# Altium integrated library Resistors.IntLib: 255 symbols (part 1 of 3)
Pins are listed as number, name and electrical type; pins without a type are passive.

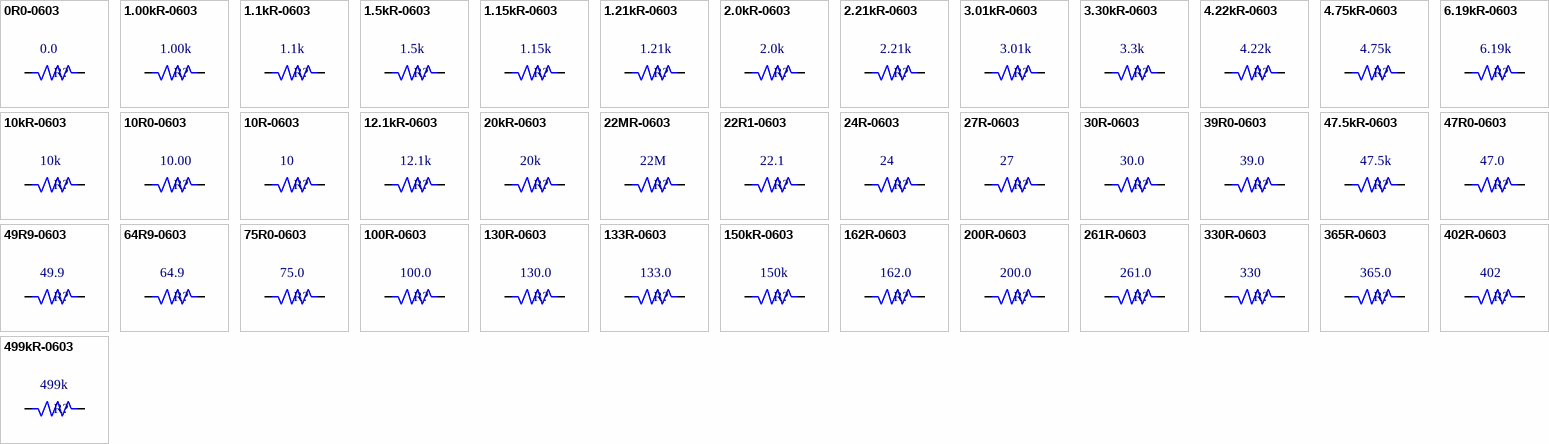
[diagram p0: symbols 0R0-0603 to 499kR-0603]

## 0R0-0603
designator R?, comment value 0.0  (hidden comment: RC0603JR-070RL)
0R0, 0603 SMT resistor 1/10W; PackageDescription: Chip Resistor 0603; Supplier 1: Digi-Key; Supplier 2: Newark; Supplier 3: Mouser; Supplier Part Number 1: 311-0.0GRCT-ND; Supplier Part Number 2: 26R4042; Supplier Part Number 3: 667-ERJ-3GEY0R00V; Package Reference: 0603
simulation model RESISTOR (Resistor)
signal-integrity model Res
footprint R0603 (Chip Resistor, Body 0.6x0.3mm, IPC High Density)
3D model 0603-Res (PCB3D Model)
pins: 1, 2

## 1.00kR-0603
designator R?, comment value 1.00k  (hidden comment: 1.00k, 0603)
1.00k, 0603 SMT resistor, 1/10W, 1%; PackageDescription: Chip Resistor 0603; Supplier 1: Mouser; Supplier 2: Newark; Supplier 3: Digi-Key; Supplier 4: Digi-Key; Supplier Part Number 1: 667-ERJ-3EKF1001V; Supplier Part Number 2: 64R5308; Supplier Part Number 3: P1.00KHCT-ND; Supplier Part Number 4: RHM1.00KCFCT-ND; Package Reference: 0603
simulation model RESISTOR (Resistor)
signal-integrity model Res
footprint R0603 (Chip Resistor, Body 0.6x0.3mm, IPC High Density)
3D model 0603-Res (PCB3D Model)
pins: 1, 2

## 1.1kR-0603
designator R?, comment value 1.1k  (hidden comment: 1.1k, 0603)
1.1k, 0603 SMT resistor, 1/10W, 1%; PackageDescription: Chip Resistor 0603; Supplier 1: Newark; Supplier 2: Digi-Key; Supplier 3: Mouser; Supplier Part Number 1: 65T8314; Supplier Part Number 2: P1.10KHCT-ND; Supplier Part Number 3: 667-ERJ-3EKF1101V; Package Reference: 0603
simulation model RESISTOR (Resistor)
signal-integrity model Res
footprint R0603 (Chip Resistor, Body 0.6x0.3mm, IPC High Density)
3D model 0603-Res (PCB3D Model)
pins: 1, 2

## 1.5kR-0603
designator R?, comment value 1.5k  (hidden comment: 1.5k, 0603)
1.5k, 0603 SMT resistor, 1/10W, 1%; PackageDescription: Chip Resistor 0603; Supplier 1: Mouser; Supplier 2: Digi-Key; Supplier 3: Newark; Supplier Part Number 1: 667-ERJ-3EKF1501V; Supplier Part Number 2: P1.50KHCT-ND; Supplier Part Number 3: 64R5319; Package Reference: 0603
simulation model RESISTOR (Resistor)
signal-integrity model Res
footprint R0603 (Chip Resistor, Body 0.6x0.3mm, IPC High Density)
3D model 0603-Res (PCB3D Model)
pins: 1, 2

## 1.15kR-0603
designator R?, comment value 1.15k  (hidden comment: 1.15k, 0603)
1.15k 0603 SMT resistor, 1/10W, 1%; PackageDescription: Chip Resistor 0603; Supplier 1: Mouser; Supplier 2: Digi-Key; Supplier 3: Newark; Supplier Part Number 1: 667-ERJ-3EKF1151V; Supplier Part Number 2: P1.15KHCT-ND; Supplier Part Number 3: 53W4514; Package Reference: 0603
simulation model RESISTOR (Resistor)
signal-integrity model Res
footprint R0603 (Chip Resistor, Body 0.6x0.3mm, IPC High Density)
3D model 0603-Res (PCB3D Model)
pins: 1, 2

## 1.21kR-0603
designator R?, comment value 1.21k  (hidden comment: 1.21k, 0603)
1.21k, 0603 SMT resistor, 1/10W, 1%; PackageDescription: Chip Resistor 0603; Supplier 1: Digi-Key; Supplier 2: Newark; Supplier 3: Mouser; Supplier Part Number 1: P1.21KHCT-ND; Supplier Part Number 2: 65T8322; Supplier Part Number 3: 667-ERJ-3EKF1211V; Package Reference: 0603
simulation model RESISTOR (Resistor)
signal-integrity model Res
footprint R0603 (Chip Resistor, Body 0.6x0.3mm, IPC High Density)
3D model 0603-Res (PCB3D Model)
pins: 1, 2

## 2.0kR-0603
designator R?, comment value 2.0k  (hidden comment: 2.0k, 0603)
2.0k, 0603 SMT resistor, 1/10W, 1%; PackageDescription: Chip Resistor 0603; Supplier 1: Mouser; Supplier 2: Digi-Key; Supplier 3: Newark; Supplier Part Number 1: 667-ERJ-3EKF2001V; Supplier Part Number 2: P2.00KHCT-ND; Supplier Part Number 3: 65T8366; Package Reference: 0603
simulation model RESISTOR (Resistor)
signal-integrity model Res
footprint R0603 (Chip Resistor, Body 0.6x0.3mm, IPC High Density)
3D model 0603-Res (PCB3D Model)
pins: 1, 2

## 2.21kR-0603
designator R?, comment value 2.21k  (hidden comment: 2.21k, 0603)
2.21k, 0603 SMT resistor, 1/10W, 1%; PackageDescription: Chip Resistor 0603; Supplier 1: Mouser; Supplier 2: Newark; Supplier 3: Digi-Key; Supplier Part Number 1: 667-ERJ-3EKF2211V; Supplier Part Number 2: 65T8380; Supplier Part Number 3: P2.21KHCT-ND; Package Reference: 0603
simulation model RESISTOR (Resistor)
signal-integrity model Res
footprint R0603 (Chip Resistor, Body 0.6x0.3mm, IPC High Density)
3D model 0603-Res (PCB3D Model)
pins: 1, 2

## 3.01kR-0603
designator R?, comment value 3.01k  (hidden comment: 3.01k, 0603)
3.01k, 0603 SMT resistor, 1/10W, 1%; PackageDescription: Chip Resistor 0603; Supplier 1: Digi-Key; Supplier 2: Newark; Supplier 3: Mouser; Supplier Part Number 1: P3.01KHCT-ND; Supplier Part Number 2: 65T8418; Supplier Part Number 3: 667-ERJ-3EKF3011V; Package Reference: 0603
simulation model RESISTOR (Resistor)
signal-integrity model Res
footprint R0603 (Chip Resistor, Body 0.6x0.3mm, IPC High Density)
3D model 0603-Res (PCB3D Model)
pins: 1, 2

## 3.30kR-0603
designator R?, comment value 3.3k  (hidden comment: 3.3k, 0603 1%)
3.3k, 0603 SMT resistor, 1/10W, 1%; PackageDescription: Chip Resistor 0603; Supplier 1: Digi-Key; Supplier Part Number 1: 311-3.30KHRCT-ND; Supplier 2: Digi-Key; Supplier Part Number 2: RMCF0603FT3K30CT-ND; Supplier 3: Mouser; Supplier Part Number 3: 660-RK73H1JTTD3301F; Supplier 4: Newark; Supplier Part Number 4: 52K8376; Package Reference: 0603
simulation model RESISTOR (Resistor)
signal-integrity model Res
footprint R0603 (Chip Resistor, Body 0.6x0.3mm, IPC High Density)
3D model 0603-Res (PCB3D Model)
pins: 1, 2

## 4.22kR-0603
designator R?, comment value 4.22k  (hidden comment: 4.22k, 0603)
4.22k, 0603 SMT resistor, 1/10W, 1%; PackageDescription: Chip Resistor 0603; Supplier 1: Mouser; Supplier 2: Newark; Supplier 3: Digi-Key; Supplier Part Number 1: 667-ERJ-3EKF4221V; Supplier Part Number 2: 53W4622; Supplier Part Number 3: P4.22KHCT-ND; Package Reference: 0603
simulation model RESISTOR (Resistor)
signal-integrity model Res
footprint R0603 (Chip Resistor, Body 0.6x0.3mm, IPC High Density)
3D model 0603-Res (PCB3D Model)
pins: 1, 2

## 4.75kR-0603
designator R?, comment value 4.75k  (hidden comment: 4.75k, 0603)
4.75k, 0603 SMT resistor, 1/10W, 1%; PackageDescription: Chip Resistor 0603; Supplier 1: Mouser; Supplier 2: Digi-Key; Supplier 3: Newark; Supplier Part Number 1: 667-ERJ-3EKF4751V; Supplier Part Number 2: P4.75KHCT-ND; Supplier Part Number 3: 65T8465; Package Reference: 0603
simulation model RESISTOR (Resistor)
signal-integrity model Res
footprint R0603 (Chip Resistor, Body 0.6x0.3mm, IPC High Density)
3D model 0603-Res (PCB3D Model)
pins: 1, 2

## 6.19kR-0603
designator R?, comment value 6.19k  (hidden comment: 6.19k, 0603)
6.19k, 0603 SMT resistor, 1/10W, 1%; PackageDescription: Chip Resistor 0603; Supplier 1: Mouser; Supplier 2: Digi-Key; Supplier 3: Newark; Supplier Part Number 1: 667-ERJ-3EKF6191V; Supplier Part Number 2: P6.19KHCT-ND; Supplier Part Number 3: 65T8500; Package Reference: 0603
simulation model RESISTOR (Resistor)
signal-integrity model Res
footprint R0603 (Chip Resistor, Body 0.6x0.3mm, IPC High Density)
3D model 0603-Res (PCB3D Model)
pins: 1, 2

## 10kR-0603
designator R?, comment value 10k  (hidden comment: 10k, 0603)
10k, 0603 SMT resistor, 1/10W, 1%; PackageDescription: Chip Resistor 0603; Supplier 1: Newark; Supplier 2: Mouser; Supplier 3: Digi-Key; Supplier Part Number 1: 64R5309; Supplier Part Number 2: 667-ERJ-3EKF1002V; Supplier Part Number 3: P10.0KHCT-ND; Package Reference: 0603
simulation model RESISTOR (Resistor)
signal-integrity model Res
footprint R0603 (Chip Resistor, Body 0.6x0.3mm, IPC High Density)
3D model 0603-Res (PCB3D Model)
pins: 1, 2

## 10R0-0603
designator R?, comment value 10.00  (hidden comment: 10R0, 0603)
10R0, 0603 SMT resistor, 1/10W, 1%; PackageDescription: Chip Resistor 0603; Supplier 1: Mouser; Supplier 2: Newark; Supplier 3: Digi-Key; Supplier Part Number 1: 667-ERJ-3EKF10R0V; Supplier Part Number 2: 64R5306; Supplier Part Number 3: P10.0HDKR-ND; Package Reference: 0603
simulation model RESISTOR (Resistor)
signal-integrity model Res
footprint R0603 (Chip Resistor, Body 0.6x0.3mm, IPC High Density)
3D model 0603-Res (PCB3D Model)
pins: 1, 2

## 10R-0603
designator R?, comment value 10  (hidden comment: 10R 0603)
10R, 0603 SMT resistor, 1/10W, 5%; PackageDescription: Chip Resistor 0603; Supplier 1: Digi-Key; Supplier 2: Digi-Key; Supplier 3: Arrow; Supplier 4: Newark; Supplier 5: Newark; Supplier Part Number 1: 311-10GRDKR-ND; Supplier Part Number 2: RHM10DDKR-ND; Supplier Part Number 3: RC1608J100CS; Supplier Part Number 4: 28K0886; Supplier Part Number 5: 52K8073; Package Reference: 0603
simulation model RESISTOR (Resistor)
signal-integrity model Res
footprint R0603 (Chip Resistor, Body 0.6x0.3mm, IPC High Density)
3D model 0603-Res (PCB3D Model)
pins: 1, 2

## 12.1kR-0603
designator R?, comment value 12.1k  (hidden comment: 12.1k, 0603)
12.1k, 0603 SMT resistor, 1/10W, 1%; PackageDescription: Chip Resistor 0603; Supplier 1: Mouser; Supplier 2: Digi-Key; Supplier 3: Newark; Supplier Part Number 1: 667-ERJ-3EKF1212V; Supplier Part Number 2: P12.1KHCT-ND; Supplier Part Number 3: 65T8323; Package Reference: 0603
simulation model RESISTOR (Resistor)
signal-integrity model Res
footprint R0603 (Chip Resistor, Body 0.6x0.3mm, IPC High Density)
3D model 0603-Res (PCB3D Model)
pins: 1, 2

## 20kR-0603
designator R?, comment value 20k  (hidden comment: 20k, 0603)
20k, 0603 SMT resistor, 1/10W, 1%; PackageDescription: Chip Resistor 0603; Supplier 1: Mouser; Supplier 2: Newark; Supplier 3: Digi-Key; Supplier Part Number 1: 667-ERJ-3EKF2002V; Supplier Part Number 2: 65T8367; Supplier Part Number 3: P20.0KHCT-ND; Package Reference: 0603
simulation model RESISTOR (Resistor)
signal-integrity model Res
footprint R0603 (Chip Resistor, Body 0.6x0.3mm, IPC High Density)
3D model 0603-Res (PCB3D Model)
pins: 1, 2

## 22MR-0603
designator R?, comment value 22M  (hidden comment: 22M, 0603)
22M, 0603 SMT resistor, 1/10W, 1%; PackageDescription: Chip Resistor 0603; Supplier 1: Digi-Key; Supplier 2: Arrow; Supplier Part Number 1: RMCF0603JT22M0CT-ND; Supplier Part Number 2: RMCF0603JT22M0; Package Reference: 0603
simulation model RESISTOR (Resistor)
signal-integrity model Res
footprint R0603 (Chip Resistor, Body 0.6x0.3mm, IPC High Density)
3D model 0603-Res (PCB3D Model)
pins: 1, 2

## 22R1-0603
designator R?, comment value 22.1  (hidden comment: 22R1, 0603)
22R1, 0603 SMT resistor, 1/10W, 1%; PackageDescription: Chip Resistor 0603; Supplier 1: Digi-Key; Supplier 2: Digi-Key; Supplier 3: Newark; Supplier 4: Mouser; Supplier 5: Digi-Key; Supplier Part Number 1: RMCF0603FT22R1DKR-ND; Supplier Part Number 2: 311-22.1HRCT-ND; Supplier Part Number 3: 65T8378; Supplier Part Number 4: 667-ERJ-3EKF22R1V; Supplier Part Number 5: P22.1HDKR-ND; Package Reference: 0603
simulation model RESISTOR (Resistor)
signal-integrity model Res
footprint R0603 (Chip Resistor, Body 0.6x0.3mm, IPC High Density)
3D model 0603-Res (PCB3D Model)
pins: 1, 2

## 24R-0603
designator R?, comment value 24  (hidden comment: 24R, 0603)
24R, 0603 SMT resistor, 1/10W, 5%; PackageDescription: Chip Resistor 0603; Supplier 1: Digi-Key; Supplier 2: Mouser; Supplier 3: Digi-Key; Supplier 4: Newark; Supplier Part Number 1: 311-24GRCT-ND; Supplier Part Number 2: 667-ERJ-3GEYJ240V; Supplier Part Number 3: P24GCT-ND; Supplier Part Number 4: 65T8608; Package Reference: 0603
simulation model RESISTOR (Resistor)
signal-integrity model Res
footprint R0603 (Chip Resistor, Body 0.6x0.3mm, IPC High Density)
3D model 0603-Res (PCB3D Model)
pins: 1, 2

## 27R-0603
designator R?, comment value 27  (hidden comment: 27R, 0603)
27R, 0603 SMT resistor, 1/10W, 5%; PackageDescription: Chip Resistor 0603; Supplier 1: Mouser; Supplier 2: Newark; Supplier 3: Digi-Key; Supplier 4: Arrow; Supplier 5: Digi-Key; Supplier Part Number 1: 667-ERJ-3GEYJ270V; Supplier Part Number 2: 65T8614; Supplier Part Number 3: P27GCT-ND; Supplier Part Number 4: CR0603-JW-270ELF; Supplier Part Number 5: CR0603-JW-270ELFCT-ND; Package Reference: 0603
simulation model RESISTOR (Resistor)
signal-integrity model Res
footprint R0603 (Chip Resistor, Body 0.6x0.3mm, IPC High Density)
3D model 0603-Res (PCB3D Model)
pins: 1, 2

## 30R-0603
designator R?, comment value 30.0  (hidden comment: 30R, 0603)
30R, 0603 SMT resistor, 1/10W, 5%; PackageDescription: Chip Resistor 0603; Supplier 1: Mouser; Supplier 2: Newark; Supplier 3: Digi-Key; Supplier Part Number 1: 667-ERJ-3GEYJ300V; Supplier Part Number 2: 65T8622; Supplier Part Number 3: P30GCT-ND; Package Reference: 0603
simulation model RESISTOR (Resistor)
signal-integrity model Res
footprint R0603 (Chip Resistor, Body 0.6x0.3mm, IPC High Density)
3D model 0603-Res (PCB3D Model)
pins: 1, 2

## 39R0-0603
designator R?, comment value 39.0  (hidden comment: 39R0, 0603)
39R0, 0603 SMT resistor, 1/10W, 1%; PackageDescription: Chip Resistor 0603; Supplier 1: Newark; Supplier 2: Mouser; Supplier 3: Digi-Key; Supplier Part Number 1: 64R5342; Supplier Part Number 2: 667-ERJ-3EKF39R0V; Supplier Part Number 3: P39.0HCT-ND; Package Reference: 0603
simulation model RESISTOR (Resistor)
signal-integrity model Res
footprint R0603 (Chip Resistor, Body 0.6x0.3mm, IPC High Density)
3D model 0603-Res (PCB3D Model)
pins: 1, 2

## 47.5kR-0603
designator R?, comment value 47.5k  (hidden comment: 47.5k, 0603)
47.5k, 0603 SMT resistor, 1/10W, 1%; PackageDescription: Chip Resistor 0603; Supplier 1: Newark; Supplier 2: Mouser; Supplier 3: Digi-Key; Supplier Part Number 1: 65T8466; Supplier Part Number 2: 667-ERJ-3EKF4752V; Supplier Part Number 3: P47.5KHCT-ND; Package Reference: 0603
simulation model RESISTOR (Resistor)
signal-integrity model Res
footprint R0603 (Chip Resistor, Body 0.6x0.3mm, IPC High Density)
3D model 0603-Res (PCB3D Model)
pins: 1, 2

## 47R0-0603
designator R?, comment value 47.0  (hidden comment: 47R0, 0603)
47R0, 0603 SMT resistor, 1/10W, 1%; PackageDescription: Chip Resistor 0603; Supplier 1: Digi-Key; Supplier 2: Newark; Supplier 3: Digi-Key; Supplier 4: Mouser; Supplier Part Number 1: RMCF0603FT47R0CT-ND; Supplier Part Number 2: 64R5347; Supplier Part Number 3: P47.0HCT-ND; Supplier Part Number 4: 667-ERJ-3EKF47R0V; Package Reference: 0603
simulation model RESISTOR (Resistor)
signal-integrity model Res
footprint R0603 (Chip Resistor, Body 0.6x0.3mm, IPC High Density)
3D model 0603-Res (PCB3D Model)
pins: 1, 2

## 49R9-0603
designator R?, comment value 49.9  (hidden comment: 49R9, 0603)
49R9, 0603 SMT resistor, 1/10W, 1%; PackageDescription: Chip Resistor 0603; Supplier 1: Arrow; Supplier 2: Newark; Supplier 3: Mouser; Supplier 4: Digi-Key; Supplier Part Number 1: ERJ-3EKF49R9V; Supplier Part Number 2: 65T8468; Supplier Part Number 3: 667-ERJ-3EKF49R9V; Supplier Part Number 4: P49.9HCT-ND; Package Reference: 0603
simulation model RESISTOR (Resistor)
signal-integrity model Res
footprint R0603 (Chip Resistor, Body 0.6x0.3mm, IPC High Density)
3D model 0603-Res (PCB3D Model)
pins: 1, 2

## 64R9-0603
designator R?, comment value 64.9  (hidden comment: 64R9, 0603)
64R9, 0603 SMT resistor, 1/10W, 1%; PackageDescription: Chip Resistor 0603; Supplier 1: Newark; Supplier 2: Digi-Key; Supplier 3: Mouser; Supplier Part Number 1: 53W4664; Supplier Part Number 2: P64.9HCT-ND; Supplier Part Number 3: 667-ERJ-3EKF64R9V; Package Reference: 0603
simulation model RESISTOR (Resistor)
signal-integrity model Res
footprint R0603 (Chip Resistor, Body 0.6x0.3mm, IPC High Density)
3D model 0603-Res (PCB3D Model)
pins: 1, 2

## 75R0-0603
designator R?, comment value 75.0  (hidden comment: 75R0, 0603)
75R0, 0603 SMT resistor, 1/10W, 1%; PackageDescription: Chip Resistor 0603; Supplier 1: Mouser; Supplier 2: Digi-Key; Supplier 3: Newark; Supplier Part Number 1: 667-ERJ-3EKF75R0V; Supplier Part Number 2: P75.0HCT-ND; Supplier Part Number 3: 65T8518; Package Reference: 0603
simulation model RESISTOR (Resistor)
signal-integrity model Res
footprint R0603 (Chip Resistor, Body 0.6x0.3mm, IPC High Density)
3D model 0603-Res (PCB3D Model)
pins: 1, 2

## 100R-0603
designator R?, comment value 100.0  (hidden comment: 100R, 0603)
100R, 0603 SMT resistor, 1/10W, 1%; PackageDescription: Chip Resistor 0603; Supplier 1: Digi-Key; Supplier 2: Newark; Supplier 3: Mouser; Supplier Part Number 1: P100HCT-ND; Supplier Part Number 2: 64R5307; Supplier Part Number 3: 667-ERJ-3EKF1000V; Package Reference: 0603
simulation model RESISTOR (Resistor)
signal-integrity model Res
footprint R0603 (Chip Resistor, Body 0.6x0.3mm, IPC High Density)
3D model 0603-Res (PCB3D Model)
pins: 1, 2

## 130R-0603
designator R?, comment value 130.0  (hidden comment: 130R, 0603)
130R0, 0603 SMT resistor, 1/10W, 1%; PackageDescription: Chip Resistor 0603; Supplier 1: Arrow; Supplier 2: Mouser; Supplier 3: Digi-Key; Supplier 4: Newark; Supplier Part Number 1: ERJ-3EKF1300V; Supplier Part Number 2: 667-ERJ-3EKF1300V; Supplier Part Number 3: P130HCT-ND; Supplier Part Number 4: 65T8330; Package Reference: 0603
simulation model RESISTOR (Resistor)
signal-integrity model Res
footprint R0603 (Chip Resistor, Body 0.6x0.3mm, IPC High Density)
3D model 0603-Res (PCB3D Model)
pins: 1, 2

## 133R-0603
designator R?, comment value 133.0  (hidden comment: 133R0, 0603)
133R0, 0603 SMT resistor, 1/10W, 1%; PackageDescription: Chip Resistor 0603; Supplier 1: Newark; Supplier 2: Digi-Key; Supplier 3: Mouser; Supplier 4: Digi-Key; Supplier 5: Mouser; Supplier Part Number 1: 53W4524; Supplier Part Number 2: P133HCT-ND; Supplier Part Number 3: 667-ERJ-3EKF1330V; Supplier Part Number 4: 541-133HTR-ND; Supplier Part Number 5: 71-CRCW0603133RFKEB; Package Reference: 0603
simulation model RESISTOR (Resistor)
signal-integrity model Res
footprint R0603 (Chip Resistor, Body 0.6x0.3mm, IPC High Density)
3D model 0603-Res (PCB3D Model)
pins: 1, 2

## 150kR-0603
designator R?, comment value 150k  (hidden comment: 150k, 1% 0603)
150k, 0603 SMT resistor, 1/10W, 1%; PackageDescription: Chip Resistor 0603; Supplier 1: Mouser; Supplier Part Number 1: 71-CRCW0603-150K-E3; Supplier 2: Newark; Supplier Part Number 2: 52K8158; Supplier 3: Digi-Key; Supplier Part Number 3: RHM150KCFDKR-ND; Supplier 4: Newark; Supplier Part Number 4: 94W5187; Package Reference: 0603
simulation model RESISTOR (Resistor)
signal-integrity model Res
footprint R0603 (Chip Resistor, Body 0.6x0.3mm, IPC High Density)
3D model 0603-Res (PCB3D Model)
pins: 1, 2

## 162R-0603
designator R?, comment value 162.0  (hidden comment: 162R0, 0603)
162R0, 0603 SMT resistor, 1/10W, 1%; PackageDescription: Chip Resistor 0603; Supplier 1: Mouser; Supplier 2: Digi-Key; Supplier 3: Newark; Supplier Part Number 1: 667-ERJ-3EKF1620V; Supplier Part Number 2: P162HCT-ND; Supplier Part Number 3: 53W4543; Package Reference: 0603
simulation model RESISTOR (Resistor)
signal-integrity model Res
footprint R0603 (Chip Resistor, Body 0.6x0.3mm, IPC High Density)
3D model 0603-Res (PCB3D Model)
pins: 1, 2

## 200R-0603
designator R?, comment value 200.0  (hidden comment: 200R0, 0603)
200R0, 0603 SMT resistor, 1/10W, 1%; PackageDescription: Chip Resistor 0603; Supplier 1: Mouser; Supplier 2: Digi-Key; Supplier 3: Newark; Supplier Part Number 1: 667-ERJ-3EKF2000V; Supplier Part Number 2: P200HCT-ND; Supplier Part Number 3: 65T8365; Package Reference: 0603
simulation model RESISTOR (Resistor)
signal-integrity model Res
footprint R0603 (Chip Resistor, Body 0.6x0.3mm, IPC High Density)
3D model 0603-Res (PCB3D Model)
pins: 1, 2

## 261R-0603
designator R?, comment value 261.0  (hidden comment: 261R0, 0603)
261R0, 0603 SMT resistor, 1/10W, 1%; PackageDescription: Chip Resistor 0603; Supplier 1: Newark; Supplier 2: Digi-Key; Supplier 3: Mouser; Supplier Part Number 1: 53W4577; Supplier Part Number 2: P261HCT-ND; Supplier Part Number 3: 667-ERJ-3EKF2610V; Package Reference: 0603
simulation model RESISTOR (Resistor)
signal-integrity model Res
footprint R0603 (Chip Resistor, Body 0.6x0.3mm, IPC High Density)
3D model 0603-Res (PCB3D Model)
pins: 1, 2

## 330R-0603
designator R?, comment value 330  (hidden comment: 330R, 0603)
330R, 0603 SMT resistor, 1/10W, 5%; PackageDescription: Chip Resistor 0603; Supplier 1: Mouser; Supplier 2: Digi-Key; Supplier 3: Newark; Supplier Part Number 1: 667-ERJ-3GEYJ331V; Supplier Part Number 2: P330GCT-ND; Supplier Part Number 3: 65T8629; Package Reference: 0603
simulation model RESISTOR (Resistor)
signal-integrity model Res
footprint R0603 (Chip Resistor, Body 0.6x0.3mm, IPC High Density)
3D model 0603-Res (PCB3D Model)
pins: 1, 2

## 365R-0603
designator R?, comment value 365.0  (hidden comment: 365R0, 0603)
365R, 0603 SMT resistor, 1/10W, 1%; PackageDescription: Chip Resistor 0603; Supplier 1: Newark; Supplier 2: Digi-Key; Supplier 3: Mouser; Supplier Part Number 1: 53W4608; Supplier Part Number 2: P365HCT-ND; Supplier Part Number 3: 667-ERJ-3EKF3650V; Package Reference: 0603
simulation model RESISTOR (Resistor)
signal-integrity model Res
footprint R0603 (Chip Resistor, Body 0.6x0.3mm, IPC High Density)
3D model 0603-Res (PCB3D Model)
pins: 1, 2

## 402R-0603
designator R?, comment value 402  (hidden comment: 402R, 0603)
402R, 0603 SMT resistor, 1/10W, 1%; PackageDescription: Chip Resistor 0603; Supplier 1: Newark; Supplier 2: Mouser; Supplier 3: Digi-Key; Supplier Part Number 1: 65T8446; Supplier Part Number 2: 667-ERJ-3EKF4020V; Supplier Part Number 3: P402HCT-ND; Package Reference: 0603
simulation model RESISTOR (Resistor)
signal-integrity model Res
footprint R0603 (Chip Resistor, Body 0.6x0.3mm, IPC High Density)
3D model 0603-Res (PCB3D Model)
pins: 1, 2

## 499kR-0603
designator R?, comment value 499k  (hidden comment: 499k, 0603)
499k, 0603 SMT resistor, 1/10W, 1%; PackageDescription: Chip Resistor 0603; Supplier 1: Mouser; Supplier 2: Newark; Supplier 3: Digi-Key; Supplier Part Number 1: 667-ERJ-3EKF4993V; Supplier Part Number 2: 53W4639; Supplier Part Number 3: P499KHCT-ND; Package Reference: 0603
simulation model RESISTOR (Resistor)
signal-integrity model Res
footprint R0603 (Chip Resistor, Body 0.6x0.3mm, IPC High Density)
3D model 0603-Res (PCB3D Model)
pins: 1, 2

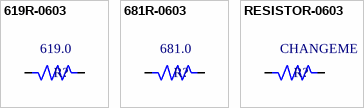
[diagram p1: symbols 619R-0603 to RESISTOR-0603]

## 619R-0603
designator R?, comment value 619.0  (hidden comment: 619R, 0603)
619R, 0603 SMT resistor, 1/10W, 1%; PackageDescription: Chip Resistor 0603; Supplier 1: Mouser; Supplier 2: Digi-Key; Supplier 3: Newark; Supplier Part Number 1: 667-ERJ-3EKF6190V; Supplier Part Number 2: P619HCT-ND; Supplier Part Number 3: 65T8499; Package Reference: 0603
simulation model RESISTOR (Resistor)
signal-integrity model Res
footprint R0603 (Chip Resistor, Body 0.6x0.3mm, IPC High Density)
3D model 0603-Res (PCB3D Model)
pins: 1, 2

## 681R-0603
designator R?, comment value 681.0  (hidden comment: 681R, 0603)
681R, 0603 SMT resistor, 1/10W, 1%; PackageDescription: Chip Resistor 0603; Supplier 1: Mouser; Supplier 2: Digi-Key; Supplier 3: Newark; Supplier Part Number 1: 667-ERJ-3EKF6810V; Supplier Part Number 2: P681HCT-ND; Supplier Part Number 3: 53W4669; Package Reference: 0603
simulation model RESISTOR (Resistor)
signal-integrity model Res
footprint R0603 (Chip Resistor, Body 0.6x0.3mm, IPC High Density)
3D model 0603-Res (PCB3D Model)
pins: 1, 2

## RESISTOR-0603
designator R?, comment value CHANGEME  (hidden comment: Generic Resistor, 0603)
Generic, 0603 SMT resistor, 1/10W, x%; PackageDescription: Chip Resistor 0603; Package Reference: 0603
simulation model RESISTOR (Resistor)
signal-integrity model Res
footprint R0603 (Chip Resistor, Body 0.6x0.3mm, IPC High Density)
3D model 0603-Res (PCB3D Model)
pins: 1, 2


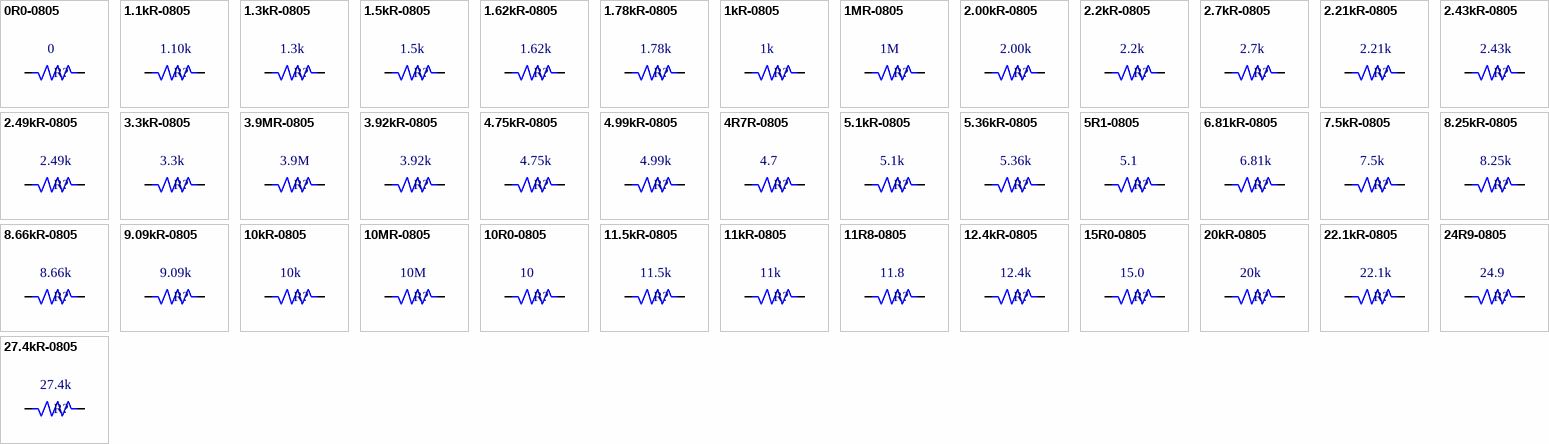
[diagram p2: symbols 0R0-0805 to 27.4kR-0805]

## 0R0-0805
designator R?, comment value 0  (hidden comment: RC2012J000CS)
0R0, 0805 SMT resistor, 1/8W; PackageDescription: Chip Resistor 0805; Supplier 1: Digi-Key; Supplier 2: Newark; Supplier Part Number 1: 1276-5466-1-ND; Supplier Part Number 2: 52K9721; Package Reference: 0805
simulation model RESISTOR (Resistor)
signal-integrity model Res
footprint R0805 (Chip Resistor, Body 2.0x1.2mm, IPC Medium Density)
3D model 0805-Res (PCB3D Model)
pins: 1, 2

## 1.1kR-0805
designator R?, comment value 1.10k  (hidden comment: 1.10k, 0805)
1.10k, 0805 SMT resistor, 1/8W, 1%; PackageDescription: Chip Resistor 0805; Supplier 1: Newark; Supplier 2: Digi-Key; Supplier 3: Mouser; Supplier Part Number 1: 61M5426; Supplier Part Number 2: 541-1.10KCCT-ND; Supplier Part Number 3: 71-CRCW0805-1.1K-E3; Package Reference: 0805
simulation model RESISTOR (Resistor)
signal-integrity model Res
footprint R0805 (Chip Resistor, Body 2.0x1.2mm, IPC Medium Density)
3D model 0805-Res (PCB3D Model)
pins: 1, 2

## 1.3kR-0805
designator R?, comment value 1.3k  (hidden comment: 1.3kR, 0805)
1.3kR, 0805 SMT resistor, 1/8W, 1%; PackageDescription: Chip Resistor 0805; Supplier 1: Digi-Key; Supplier 2: Mouser; Supplier 3: Newark; Supplier Part Number 1: 541-1.30KCCT-ND; Supplier Part Number 2: 71-CRCW0805-1.3K-E3; Supplier Part Number 3: 52K9738; Package Reference: 0805
simulation model RESISTOR (Resistor)
signal-integrity model Res
footprint R0805 (Chip Resistor, Body 2.0x1.2mm, IPC Medium Density)
3D model 0805-Res (PCB3D Model)
pins: 1, 2

## 1.5kR-0805
designator R?, comment value 1.5k  (hidden comment: 1.5kR, 0805)
1.5kR, 0805 SMT resistor, 1/8W, 1%; PackageDescription: Chip Resistor 0805; Supplier 1: Newark; Supplier 2: Mouser; Supplier 3: Digi-Key; Supplier Part Number 1: 52K9744; Supplier Part Number 2: 71-CRCW0805-1.5K-E3; Supplier Part Number 3: 541-1.50KCCT-ND; Package Reference: 0805
simulation model RESISTOR (Resistor)
signal-integrity model Res
footprint R0805 (Chip Resistor, Body 2.0x1.2mm, IPC Medium Density)
3D model 0805-Res (PCB3D Model)
pins: 1, 2

## 1.62kR-0805
designator R?, comment value 1.62k  (hidden comment: 1.62k, 0805)
1.62k, 0805 SMT resistor, 1/8W, 1%; PackageDescription: Chip Resistor 0805; Supplier 1: Mouser; Supplier 2: Newark; Supplier 3: Digi-Key; Supplier Part Number 1: 71-CRCW0805-1.62K-E3; Supplier Part Number 2: 52K9749; Supplier Part Number 3: 541-1.62KCCT-ND; Package Reference: 0805
simulation model RESISTOR (Resistor)
signal-integrity model Res
footprint R0805 (Chip Resistor, Body 2.0x1.2mm, IPC Medium Density)
3D model 0805-Res (PCB3D Model)
pins: 1, 2

## 1.78kR-0805
designator R?, comment value 1.78k  (hidden comment: 1.78k, 0805)
1.78k, 0805 SMT resistor, 1/8W, 1%; PackageDescription: Chip Resistor 0805; Supplier 1: Mouser; Supplier 2: Newark; Supplier 3: Digi-Key; Supplier Part Number 1: 71-CRCW0805-1.78K-E3; Supplier Part Number 2: 52K9753; Supplier Part Number 3: 541-1.78KCCT-ND; Package Reference: 0805
simulation model RESISTOR (Resistor)
signal-integrity model Res
footprint R0805 (Chip Resistor, Body 2.0x1.2mm, IPC Medium Density)
3D model 0805-Res (PCB3D Model)
pins: 1, 2

## 1kR-0805
designator R?, comment value 1k  (hidden comment: 1k, 0805)
1k, 0805 SMT resistor, 1/8W, 5%; PackageDescription: Chip Resistor 0805; Supplier 1: Newark; Supplier 2: Digi-Key; Supplier 3: Mouser; Supplier Part Number 1: 52K9725; Supplier Part Number 2: 541-1.0KACT-ND; Supplier Part Number 3: 71-CRCW08051K00JNEB; Package Reference: 0805
simulation model RESISTOR (Resistor)
signal-integrity model Res
footprint R0805 (Chip Resistor, Body 2.0x1.2mm, IPC Medium Density)
3D model 0805-Res (PCB3D Model)
pins: 1, 2

## 1MR-0805
designator R?, comment value 1M  (hidden comment: 1M, 0805)
1M, 0805 SMT resistor, 1/8W, 1%; PackageDescription: Chip Resistor 0805; Supplier 1: Mouser; Supplier 2: Newark; Supplier 3: Digi-Key; Supplier Part Number 1: 71-CRCW0805-1.0M-E3; Supplier Part Number 2: 52K9759; Supplier Part Number 3: 541-1.00MCCT-ND; Package Reference: 0805
simulation model RESISTOR (Resistor)
signal-integrity model Res
footprint R0805 (Chip Resistor, Body 2.0x1.2mm, IPC Medium Density)
3D model 0805-Res (PCB3D Model)
pins: 1, 2

## 2.00kR-0805
designator R?, comment value 2.00k  (hidden comment: 2.00k, 0805)
2.00k, 0805 SMT resistor, 1/8W, 1%; PackageDescription: Chip Resistor 0805; Supplier 1: Newark; Supplier 2: Mouser; Supplier 3: Digi-Key; Supplier Part Number 1: 52K9945; Supplier Part Number 2: 71-CRCW0805-2.0K-E3; Supplier Part Number 3: 541-2.00KCCT-ND; Package Reference: 0805
simulation model RESISTOR (Resistor)
signal-integrity model Res
footprint R0805 (Chip Resistor, Body 2.0x1.2mm, IPC Medium Density)
3D model 0805-Res (PCB3D Model)
pins: 1, 2

## 2.2kR-0805
designator R?, comment value 2.2k  (hidden comment: 2.2k, 0805)
2.2k, 0805 SMT resistor, 1/8W, 1%; PackageDescription: Chip Resistor 0805; Supplier 1: Mouser; Supplier 2: Newark; Supplier 3: Digi-Key; Supplier Part Number 1: 71-CRCW0805-2.2K-E3; Supplier Part Number 2: 52K9951; Supplier Part Number 3: 541-2.20KCCT-ND; Package Reference: 0805
simulation model RESISTOR (Resistor)
signal-integrity model Res
footprint R0805 (Chip Resistor, Body 2.0x1.2mm, IPC Medium Density)
3D model 0805-Res (PCB3D Model)
pins: 1, 2

## 2.7kR-0805
designator R?, comment value 2.7k  (hidden comment: 2.7k, 0805)
2.7k, 0805 SMT resistor, 1/8W, 5%; PackageDescription: Chip Resistor 0805; Supplier 1: Digi-Key; Supplier 2: Mouser; Supplier 3: Newark; Supplier Part Number 1: 541-2.7KACT-ND; Supplier Part Number 2: 71-CRCW08052K70JNEA; Supplier Part Number 3: 59M6867; Package Reference: 0805
simulation model RESISTOR (Resistor)
signal-integrity model Res
footprint R0805 (Chip Resistor, Body 2.0x1.2mm, IPC Medium Density)
3D model 0805-Res (PCB3D Model)
pins: 1, 2

## 2.21kR-0805
designator R?, comment value 2.21k  (hidden comment: 2.21k, 0805)
2.21k, 0805 SMT resistor, 1/8W, 1%; PackageDescription: Chip Resistor 0805; Supplier 1: Digi-Key; Supplier 2: Newark; Supplier 3: Mouser; Supplier Part Number 1: 541-2.21KCCT-ND; Supplier Part Number 2: 52K9952; Supplier Part Number 3: 71-CRCW0805-2.21K-E3; Package Reference: 0805
simulation model RESISTOR (Resistor)
signal-integrity model Res
footprint R0805 (Chip Resistor, Body 2.0x1.2mm, IPC Medium Density)
3D model 0805-Res (PCB3D Model)
pins: 1, 2

## 2.43kR-0805
designator R?, comment value 2.43k  (hidden comment: 2.43k, 0805)
2.43k, 0805 SMT resistor, 1/8W, 1%; PackageDescription: Chip Resistor 0805; Supplier 1: Mouser; Supplier 2: Newark; Supplier 3: Digi-Key; Supplier Part Number 1: 71-CRCW0805-2.43K-E3; Supplier Part Number 2: 52K9958; Supplier Part Number 3: 541-2.43KCCT-ND; Package Reference: 0805
simulation model RESISTOR (Resistor)
signal-integrity model Res
footprint R0805 (Chip Resistor, Body 2.0x1.2mm, IPC Medium Density)
3D model 0805-Res (PCB3D Model)
pins: 1, 2

## 2.49kR-0805
designator R?, comment value 2.49k  (hidden comment: 2.49k, 0805)
2.49k, 0805 SMT resistor, 1/8W, 1%; PackageDescription: Chip Resistor 0805; Supplier 1: Mouser; Supplier Part Number 1: 667-ERJ-6ENF2491V; Supplier 2: Newark; Supplier Part Number 2: 65T8726; Supplier 3: Allied; Supplier Part Number 3: 70266043; Supplier 4: Digi-Key; Supplier Part Number 4: P2.49KCCT-ND; Package Reference: 0805
simulation model RESISTOR (Resistor)
signal-integrity model Res
footprint R0805 (Chip Resistor, Body 2.0x1.2mm, IPC Medium Density)
3D model 0805-Res (PCB3D Model)
pins: 1, 2

## 3.3kR-0805
designator R?, comment value 3.3k  (hidden comment: 3.3k, 0805)
3.3k, 0805 SMT resistor, 1/8W, 5%; PackageDescription: Chip Resistor 0805; Supplier 1: Mouser; Supplier 2: Arrow; Supplier 3: Digi-Key; Supplier 4: Newark; Supplier Part Number 1: 71-CRCW08053K30JNEA; Supplier Part Number 2: CRCW08053K30JNEA; Supplier Part Number 3: 541-3.3KACT-ND; Supplier Part Number 4: 59M6884; Package Reference: 0805
simulation model RESISTOR (Resistor)
signal-integrity model Res
footprint R0805 (Chip Resistor, Body 2.0x1.2mm, IPC Medium Density)
3D model 0805-Res (PCB3D Model)
pins: 1, 2

## 3.9MR-0805
designator R?, comment value 3.9M  (hidden comment: 3.9M, 0805)
3.9M, 0805 SMT resistor, 1/8W, 1%; PackageDescription: Chip Resistor 0805; Supplier 1: Newark; Supplier 2: Mouser; Supplier 3: Digi-Key; Supplier Part Number 1: 51P0412; Supplier Part Number 2: 71-CRCW08053M90FKEA; Supplier Part Number 3: 541-3.90MCCT-ND; Package Reference: 0805
simulation model RESISTOR (Resistor)
signal-integrity model Res
footprint R0805 (Chip Resistor, Body 2.0x1.2mm, IPC Medium Density)
3D model 0805-Res (PCB3D Model)
pins: 1, 2

## 3.92kR-0805
designator R?, comment value 3.92k  (hidden comment: 3.92k, 0805)
3.92k, 0805 SMT resistor, 1/8W, 1%; PackageDescription: Chip Resistor 0805; Supplier 1: Digi-Key; Supplier 2: Mouser; Supplier 3: Newark; Supplier Part Number 1: 541-3.92KCCT-ND; Supplier Part Number 2: 71-CRCW0805-3.92K-E3; Supplier Part Number 3: 53K0109; Package Reference: 0805
simulation model RESISTOR (Resistor)
signal-integrity model Res
footprint R0805 (Chip Resistor, Body 2.0x1.2mm, IPC Medium Density)
3D model 0805-Res (PCB3D Model)
pins: 1, 2

## 4.75kR-0805
designator R?, comment value 4.75k  (hidden comment: 4.75k, 0805)
4.75k, 0805 SMT resistor, 1/8W, 1%; PackageDescription: Chip Resistor 0805; Supplier 1: Mouser; Supplier 2: Digi-Key; Supplier 3: Mouser; Supplier Part Number 1: 71-CRCW08054K75FKEB; Supplier Part Number 2: 541-4.75KTCT-ND; Supplier Part Number 3: 71-CRCW08054K75FKEAH; Package Reference: 0805
simulation model RESISTOR (Resistor)
signal-integrity model Res
footprint R0805 (Chip Resistor, Body 2.0x1.2mm, IPC Medium Density)
3D model 0805-Res (PCB3D Model)
pins: 1, 2

## 4.99kR-0805
designator R?, comment value 4.99k  (hidden comment: 4.99k, 0805)
4.99k, 0805 SMT resistor, 1/8W, 1%; PackageDescription: Chip Resistor 0805; Supplier 1: Newark; Supplier 2: Digi-Key; Supplier 3: Mouser; Supplier Part Number 1: 53K0219; Supplier Part Number 2: 541-4.99KCCT-ND; Supplier Part Number 3: 71-CRCW0805-4.99K-E3; Package Reference: 0805
simulation model RESISTOR (Resistor)
signal-integrity model Res
footprint R0805 (Chip Resistor, Body 2.0x1.2mm, IPC Medium Density)
3D model 0805-Res (PCB3D Model)
pins: 1, 2

## 4R7R-0805
designator R?, comment value 4.7  (hidden comment: 4R7, 0805)
4R7, 0805 SMT resistor, 1/8W, 5%; PackageDescription: Chip Resistor 0805; Supplier 1: Digi-Key; Supplier 2: Digi-Key; Supplier 3: Mouser; Supplier 4: Mouser; Supplier 5: Digi-Key; Supplier Part Number 1: RHM4.7KCT-ND; Supplier Part Number 2: 1276-5481-1-ND; Supplier Part Number 3: 71-CRCW08054R70JNAIF; Supplier Part Number 4: 71-CRCW08054R70JNEAH; Supplier Part Number 5: 541-4.7APCT-ND; Package Reference: 0805
simulation model RESISTOR (Resistor)
signal-integrity model Res
footprint R0805 (Chip Resistor, Body 2.0x1.2mm, IPC Medium Density)
3D model 0805-Res (PCB3D Model)
pins: 1, 2

## 5.1kR-0805
designator R?, comment value 5.1k  (hidden comment: 5.1k, 0805)
5.1k, 0805 SMT resistor, 1/8W, 5%; PackageDescription: Chip Resistor 0805; Supplier 1: Digi-Key; Supplier 2: Newark; Supplier 3: Mouser; Supplier Part Number 1: 541-5.1KACT-ND; Supplier Part Number 2: 59M6917; Supplier Part Number 3: 71-CRCW08055K10JNEA; Package Reference: 0805
simulation model RESISTOR (Resistor)
signal-integrity model Res
footprint R0805 (Chip Resistor, Body 2.0x1.2mm, IPC Medium Density)
3D model 0805-Res (PCB3D Model)
pins: 1, 2

## 5.36kR-0805
designator R?, comment value 5.36k  (hidden comment: 5.36k, 0805)
5.36k, 0805 SMT resistor, 1/8W, 1%; PackageDescription: Chip Resistor 0805; Supplier 1: Newark; Supplier 2: Mouser; Supplier 3: Digi-Key; Supplier Part Number 1: 27W4710; Supplier Part Number 2: 71-CRCW0805-5.36K-E3; Supplier Part Number 3: 541-5.36KCCT-ND; Package Reference: 0805
simulation model RESISTOR (Resistor)
signal-integrity model Res
footprint R0805 (Chip Resistor, Body 2.0x1.2mm, IPC Medium Density)
3D model 0805-Res (PCB3D Model)
pins: 1, 2

## 5R1-0805
designator R?, comment value 5.1  (hidden comment: 5R1, 0805)
5R1, 0805 SMT resistor, 1/8W, 1%; PackageDescription: Chip Resistor 0805; Supplier 1: Arrow; Supplier 2: Digi-Key; Supplier 3: Digi-Key; Supplier Part Number 1: RC2012F5R1CS; Supplier Part Number 2: 1276-5174-1-ND; Supplier Part Number 3: RHM5.10CICT-ND; Package Reference: 0805
simulation model RESISTOR (Resistor)
signal-integrity model Res
footprint R0805 (Chip Resistor, Body 2.0x1.2mm, IPC Medium Density)
3D model 0805-Res (PCB3D Model)
pins: 1, 2

## 6.81kR-0805
designator R?, comment value 6.81k  (hidden comment: 6.81k, 0805)
6.81k, 0805 SMT resistor, 1/8W, 1%; PackageDescription: Chip Resistor 0805; Supplier 1: Digi-Key; Supplier 2: Mouser; Supplier 3: Newark; Supplier Part Number 1: 541-6.81KCCT-ND; Supplier Part Number 2: 71-CRCW0805-6.81K-E3; Supplier Part Number 3: 53K0373; Package Reference: 0805
simulation model RESISTOR (Resistor)
signal-integrity model Res
footprint R0805 (Chip Resistor, Body 2.0x1.2mm, IPC Medium Density)
3D model 0805-Res (PCB3D Model)
pins: 1, 2

## 7.5kR-0805
designator R?, comment value 7.5k  (hidden comment: 7.5k, 0805)
7.5k, 0805 SMT resistor, 1/8W, 1%; PackageDescription: Chip Resistor 0805; Supplier 1: Newark; Supplier 2: Digi-Key; Supplier 3: Mouser; Supplier Part Number 1: 53K0442; Supplier Part Number 2: 541-7.50KCCT-ND; Supplier Part Number 3: 71-CRCW0805-7.5K-E3; Package Reference: 0805
simulation model RESISTOR (Resistor)
signal-integrity model Res
footprint R0805 (Chip Resistor, Body 2.0x1.2mm, IPC Medium Density)
3D model 0805-Res (PCB3D Model)
pins: 1, 2

## 8.25kR-0805
designator R?, comment value 8.25k  (hidden comment: 8.25k, 0805)
8.25k, 0805 SMT resistor, 1/8W, 1%; PackageDescription: Chip Resistor 0805; Supplier 1: Newark; Supplier 2: Mouser; Supplier 3: Digi-Key; Supplier Part Number 1: 53K0480; Supplier Part Number 2: 71-CRCW0805-8.25K-E3; Supplier Part Number 3: 541-8.25KCCT-ND; Package Reference: 0805
simulation model RESISTOR (Resistor)
signal-integrity model Res
footprint R0805 (Chip Resistor, Body 2.0x1.2mm, IPC Medium Density)
3D model 0805-Res (PCB3D Model)
pins: 1, 2

## 8.66kR-0805
designator R?, comment value 8.66k  (hidden comment: 8.66k, 0805)
8.66k, 0805 SMT resistor, 1/8W, 1%; PackageDescription: Chip Resistor 0805; Supplier 1: Digi-Key; Supplier 2: Mouser; Supplier 3: Newark; Supplier Part Number 1: 541-8.66KCCT-ND; Supplier Part Number 2: 71-CRCW0805-8.66K-E3; Supplier Part Number 3: 53K0482; Package Reference: 0805
simulation model RESISTOR (Resistor)
signal-integrity model Res
footprint R0805 (Chip Resistor, Body 2.0x1.2mm, IPC Medium Density)
3D model 0805-Res (PCB3D Model)
pins: 1, 2

## 9.09kR-0805
designator R?, comment value 9.09k  (hidden comment: 9.09k, 0805)
9.09k, 0805 SMT resistor, 1/8W, 1%; PackageDescription: Chip Resistor 0805; Supplier 1: Digi-Key; Supplier 2: Newark; Supplier 3: Mouser; Supplier Part Number 1: 541-9.09KCCT-ND; Supplier Part Number 2: 53K0525; Supplier Part Number 3: 71-CRCW0805-9.09K-E3; Package Reference: 0805
simulation model RESISTOR (Resistor)
signal-integrity model Res
footprint R0805 (Chip Resistor, Body 2.0x1.2mm, IPC Medium Density)
3D model 0805-Res (PCB3D Model)
pins: 1, 2

## 10kR-0805
designator R?, comment value 10k  (hidden comment: 10k, 0805)
10k, 0805 SMT resistor, 1/8W, 5%; PackageDescription: Chip Resistor 0805; Supplier 1: Mouser; Supplier 2: Newark; Supplier 3: Digi-Key; Supplier Part Number 1: 71-CRCW0805J-10K-E3; Supplier Part Number 2: 52K9797; Supplier Part Number 3: 541-10KACT-ND; Package Reference: 0805
simulation model RESISTOR (Resistor)
signal-integrity model Res
footprint R0805 (Chip Resistor, Body 2.0x1.2mm, IPC Medium Density)
3D model 0805-Res (PCB3D Model)
pins: 1, 2

## 10MR-0805
designator R?, comment value 10M  (hidden comment: 10M, 0805)
10M, 0805 SMT resistor, 1/8W, 1%; PackageDescription: Chip Resistor 0805; Supplier 1: Newark; Supplier 2: Digi-Key; Supplier 3: Mouser; Supplier Part Number 1: 52K9801; Supplier Part Number 2: 541-10.0MCCT-ND; Supplier Part Number 3: 71-CRCW0805-10M-E3; Package Reference: 0805
simulation model RESISTOR (Resistor)
signal-integrity model Res
footprint R0805 (Chip Resistor, Body 2.0x1.2mm, IPC Medium Density)
3D model 0805-Res (PCB3D Model)
pins: 1, 2

## 10R0-0805
designator R?, comment value 10  (hidden comment: 10R0, 0805)
10R0, 0805 SMT resistor, 1/8W, 1%; PackageDescription: Chip Resistor 0805; Supplier 1: Mouser; Supplier 2: Digi-Key; Supplier 3: Newark; Supplier Part Number 1: 71-CRCW080510R0FKEAH; Supplier Part Number 2: 541-10.0TTR-ND; Supplier Part Number 3: 52K9804; Package Reference: 0805
simulation model RESISTOR (Resistor)
signal-integrity model Res
footprint R0805 (Chip Resistor, Body 2.0x1.2mm, IPC Medium Density)
3D model 0805-Res (PCB3D Model)
pins: 1, 2

## 11.5kR-0805
designator R?, comment value 11.5k  (hidden comment: 11.5k, 0805)
11.5k, 0805 SMT resistor, 1/8W, 1%; PackageDescription: Chip Resistor 0805; Supplier 1: Mouser; Supplier 2: Newark; Supplier 3: Digi-Key; Supplier Part Number 1: 71-CRCW0805-11.5K-E3; Supplier Part Number 2: 27W4442; Supplier Part Number 3: 541-11.5KCCT-ND; Package Reference: 0805
simulation model RESISTOR (Resistor)
signal-integrity model Res
footprint R0805 (Chip Resistor, Body 2.0x1.2mm, IPC Medium Density)
3D model 0805-Res (PCB3D Model)
pins: 1, 2

## 11kR-0805
designator R?, comment value 11k  (hidden comment: 11k, 0805)
11k, 0805 SMT resistor, 1/8W, 1%; PackageDescription: Chip Resistor 0805; Supplier 1: Digi-Key; Supplier 2: Newark; Supplier 3: Mouser; Supplier Part Number 1: 541-11.0KCCT-ND; Supplier Part Number 2: 52K9818; Supplier Part Number 3: 71-CRCW0805-11K-E3; Package Reference: 0805
simulation model RESISTOR (Resistor)
signal-integrity model Res
footprint R0805 (Chip Resistor, Body 2.0x1.2mm, IPC Medium Density)
3D model 0805-Res (PCB3D Model)
pins: 1, 2

## 11R8-0805
designator R?, comment value 11.8  (hidden comment: 11R8, 0805)
11R8, 0805 SMT resistor, 1/8W, 1%; PackageDescription: Chip Resistor 0805; Supplier 1: Digi-Key; Supplier 2: Mouser; Supplier 3: Digi-Key; Supplier 4: Newark; Supplier Part Number 1: RHM11.8AHDKR-ND; Supplier Part Number 2: 71-CRCW080511R8FKEA; Supplier Part Number 3: CRCW080511R8FKEAHP-ND; Supplier Part Number 4: 52K9825; Package Reference: 0805
simulation model RESISTOR (Resistor)
signal-integrity model Res
footprint R0805 (Chip Resistor, Body 2.0x1.2mm, IPC Medium Density)
3D model 0805-Res (PCB3D Model)
pins: 1, 2

## 12.4kR-0805
designator R?, comment value 12.4k  (hidden comment: 12.4k, 0805)
12.4k, 0805 SMT resistor, 1/8W, 1%; PackageDescription: Chip Resistor 0805; Supplier 1: Newark; Supplier 2: Digi-Key; Supplier 3: Mouser; Supplier Part Number 1: 52K9838; Supplier Part Number 2: 541-12.4KCCT-ND; Supplier Part Number 3: 71-CRCW0805-12.4K-E3; Package Reference: 0805
simulation model RESISTOR (Resistor)
signal-integrity model Res
footprint R0805 (Chip Resistor, Body 2.0x1.2mm, IPC Medium Density)
3D model 0805-Res (PCB3D Model)
pins: 1, 2

## 15R0-0805
designator R?, comment value 15.0  (hidden comment: 15R0, 0805)
15R0, 0805 SMT resistor, 1/8W, 1%; PackageDescription: Chip Resistor 0805; Supplier 1: Digi-Key; Supplier 2: Arrow; Supplier Part Number 1: 1276-5188-1-ND; Supplier Part Number 2: RC2012F150CS; Package Reference: 0805
simulation model RESISTOR (Resistor)
signal-integrity model Res
footprint R0805 (Chip Resistor, Body 2.0x1.2mm, IPC Medium Density)
3D model 0805-Res (PCB3D Model)
pins: 1, 2

## 20kR-0805
designator R?, comment value 20k  (hidden comment: 20k, 0805)
20k, 0805 SMT resistor, 1/8W, 5%; PackageDescription: Chip Resistor 0805; Supplier 1: Mouser; Supplier 2: Digi-Key; Supplier 3: Newark; Supplier Part Number 1: 71-CRCW0805J-20K-E3; Supplier Part Number 2: 541-20KACT-ND; Supplier Part Number 3: 59M6872; Package Reference: 0805
simulation model RESISTOR (Resistor)
signal-integrity model Res
footprint R0805 (Chip Resistor, Body 2.0x1.2mm, IPC Medium Density)
3D model 0805-Res (PCB3D Model)
pins: 1, 2

## 22.1kR-0805
designator R?, comment value 22.1k  (hidden comment: 22.1k, 0805)
22.1k, 0805 SMT resistor, 1/8W, 1%; PackageDescription: Chip Resistor 0805; Supplier 1: Digi-Key; Supplier 2: Mouser; Supplier 3: Newark; Supplier Part Number 1: 541-22.1KCCT-ND; Supplier Part Number 2: 71-CRCW0805-22.1K-E3; Supplier Part Number 3: 61M5467; Package Reference: 0805
simulation model RESISTOR (Resistor)
signal-integrity model Res
footprint R0805 (Chip Resistor, Body 2.0x1.2mm, IPC Medium Density)
3D model 0805-Res (PCB3D Model)
pins: 1, 2

## 24R9-0805
designator R?, comment value 24.9  (hidden comment: 24R9, 0805)
24R9, 0805 SMT resistor, 1/8W, 1%; PackageDescription: Chip Resistor 0805; Supplier 1: Newark; Supplier 2: Digi-Key; Supplier Part Number 1: 65T8723; Supplier Part Number 2: RHM24.9CHCT-ND; Package Reference: 0805
simulation model RESISTOR (Resistor)
signal-integrity model Res
footprint R0805 (Chip Resistor, Body 2.0x1.2mm, IPC Medium Density)
3D model 0805-Res (PCB3D Model)
pins: 1, 2

## 27.4kR-0805
designator R?, comment value 27.4k  (hidden comment: 27.4k, 0805)
27.4k, 0805 SMT resistor, 1/8W, 1%; PackageDescription: Chip Resistor 0805; Supplier 1: Newark; Supplier 2: Mouser; Supplier 3: Digi-Key; Supplier Part Number 1: 53K0073; Supplier Part Number 2: 71-CRCW0805-27.4K-E3; Supplier Part Number 3: 541-27.4KCCT-ND; Package Reference: 0805
simulation model RESISTOR (Resistor)
signal-integrity model Res
footprint R0805 (Chip Resistor, Body 2.0x1.2mm, IPC Medium Density)
3D model 0805-Res (PCB3D Model)
pins: 1, 2

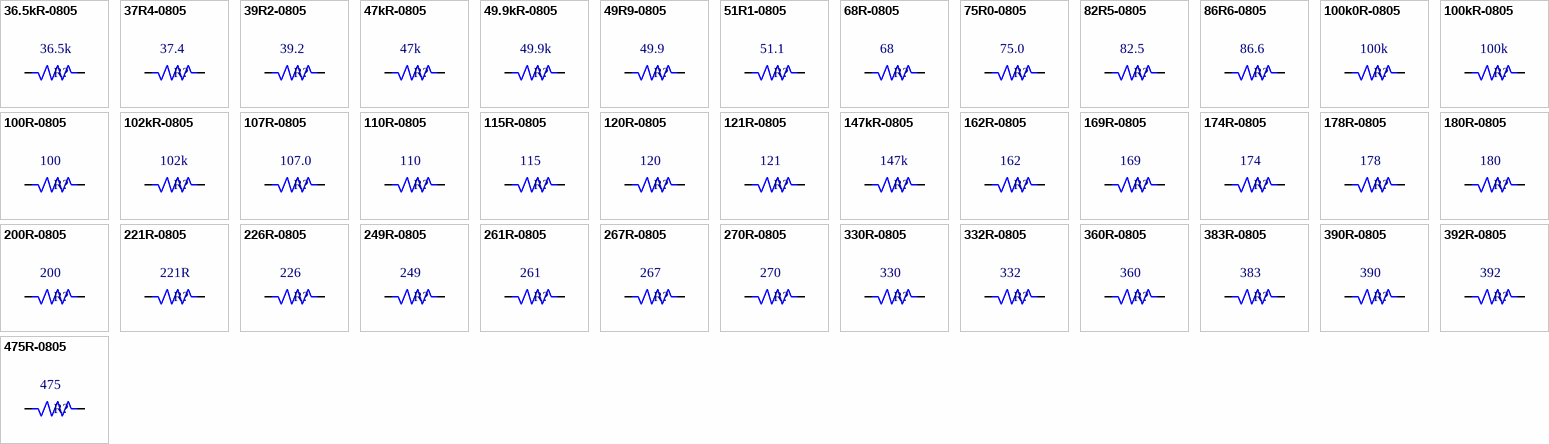
[diagram p3: symbols 36.5kR-0805 to 475R-0805]

## 36.5kR-0805
designator R?, comment value 36.5k  (hidden comment: 36.5k, 0805)
36.5k, 0805 SMT resistor, 1/8W, 1%; PackageDescription: Chip Resistor 0805; Supplier 1: Newark; Supplier 2: Digi-Key; Supplier 3: Mouser; Supplier Part Number 1: 53K0182; Supplier Part Number 2: 541-36.5KCCT-ND; Supplier Part Number 3: 71-CRCW0805-36.5K-E3; Package Reference: 0805
simulation model RESISTOR (Resistor)
signal-integrity model Res
footprint R0805 (Chip Resistor, Body 2.0x1.2mm, IPC Medium Density)
3D model 0805-Res (PCB3D Model)
pins: 1, 2

## 37R4-0805
designator R?, comment value 37.4  (hidden comment: 37R4, 0805)
37R4, 0805 SMT resistor, 1/8W, 1%; PackageDescription: Chip Resistor 0805; Supplier 1: Mouser; Supplier 2: Newark; Supplier 3: Digi-Key; Supplier 4: Newark; Supplier Part Number 1: 71-CRCW080537R4FKEA; Supplier Part Number 2: 53K0190; Supplier Part Number 3: 541-37.4CTR-ND; Supplier Part Number 4: 90W3428; Package Reference: 0805
simulation model RESISTOR (Resistor)
signal-integrity model Res
footprint R0805 (Chip Resistor, Body 2.0x1.2mm, IPC Medium Density)
3D model 0805-Res (PCB3D Model)
pins: 1, 2

## 39R2-0805
designator R?, comment value 39.2  (hidden comment: 39R2, 0805)
39R2, 0805 SMT resistor, 1/8W, 1%; PackageDescription: Chip Resistor 0805; Supplier 1: Mouser; Supplier 2: Arrow; Supplier 3: Newark; Supplier 4: Digi-Key; Supplier Part Number 1: 71-CRCW0805-39.2-E3; Supplier Part Number 2: CRCW080539R2FKEAHP; Supplier Part Number 3: 53K0200; Supplier Part Number 4: 541-39.2CTR-ND; Package Reference: 0805
simulation model RESISTOR (Resistor)
signal-integrity model Res
footprint R0805 (Chip Resistor, Body 2.0x1.2mm, IPC Medium Density)
3D model 0805-Res (PCB3D Model)
pins: 1, 2

## 47kR-0805
designator R?, comment value 47k  (hidden comment: 47k, 0805)
47k, 0805 SMT resistor, 1/8W, 1%; PackageDescription: Chip Resistor 0805; Supplier 1: Newark; Supplier 2: Digi-Key; Supplier 3: Mouser; Supplier Part Number 1: 53K0277; Supplier Part Number 2: 541-47.0KCCT-ND; Supplier Part Number 3: 71-CRCW0805-47K-E3; Package Reference: 0805
simulation model RESISTOR (Resistor)
signal-integrity model Res
footprint R0805 (Chip Resistor, Body 2.0x1.2mm, IPC Medium Density)
3D model 0805-Res (PCB3D Model)
pins: 1, 2

## 49.9kR-0805
designator R?, comment value 49.9k  (hidden comment: 49.9k, 0805)
49.9k, 0805 SMT resistor, 1/8W, 1%; PackageDescription: Chip Resistor 0805; Supplier 1: Newark; Supplier 2: Mouser; Supplier 3: Digi-Key; Supplier Part Number 1: 53K0291; Supplier Part Number 2: 71-CRCW0805-49.9K-E3; Supplier Part Number 3: 541-49.9KCCT-ND; Package Reference: 0805
simulation model RESISTOR (Resistor)
signal-integrity model Res
footprint R0805 (Chip Resistor, Body 2.0x1.2mm, IPC Medium Density)
3D model 0805-Res (PCB3D Model)
pins: 1, 2

## 49R9-0805
designator R?, comment value 49.9  (hidden comment: 49R9, 0805)
49R9, 0805 SMT resistor, 1/8W, 1%; PackageDescription: Chip Resistor 0805; Supplier 1: Newark; Supplier 2: Digi-Key; Supplier Part Number 1: 65T8752; Supplier Part Number 2: RHM49.9CHCT-ND; Package Reference: 0805
simulation model RESISTOR (Resistor)
signal-integrity model Res
footprint R0805 (Chip Resistor, Body 2.0x1.2mm, IPC Medium Density)
3D model 0805-Res (PCB3D Model)
pins: 1, 2

## 51R1-0805
designator R?, comment value 51.1  (hidden comment: 51R1, 0805)
51R1, 0805 SMT resistor, 1/8W, 1%; PackageDescription: Chip Resistor 0805; Supplier 1: Mouser; Supplier 2: Digi-Key; Supplier 3: Newark; Supplier Part Number 1: 71-CRCW0805-51.1-E3; Supplier Part Number 2: CRCW080551R1FKEAHP-ND; Supplier Part Number 3: 27W4714; Package Reference: 0805
simulation model RESISTOR (Resistor)
signal-integrity model Res
footprint R0805 (Chip Resistor, Body 2.0x1.2mm, IPC Medium Density)
3D model 0805-Res (PCB3D Model)
pins: 1, 2

## 68R-0805
designator R?, comment value 68  (hidden comment: 68R, 0805)
68R, 0805 SMT resistor, 1/8W, 5%; PackageDescription: Chip Resistor 0805; Supplier 1: Newark; Supplier 2: Mouser; Supplier 3: Digi-Key; Supplier 4: Arrow; Supplier Part Number 1: 89M6826; Supplier Part Number 2: 71-CRCW080568R0JNEA; Supplier Part Number 3: 541-68ATR-ND; Supplier Part Number 4: CRCW080568R0JNEAIF; Package Reference: 0805
simulation model RESISTOR (Resistor)
signal-integrity model Res
footprint R0805 (Chip Resistor, Body 2.0x1.2mm, IPC Medium Density)
3D model 0805-Res (PCB3D Model)
pins: 1, 2